# EAGLE library part DS1302 (library trosh_devices.eagle.v9)
Trickle-charge timekeeping chip
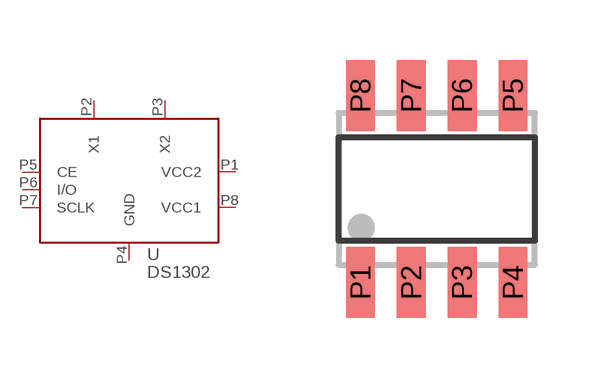
[diagram p1: symbol with the pads of SOIC-8; footprint SOIC-8]

Designator prefix U

## DS1302  [SOIC-8]
P1  VCC2  pwr
P2  X1  in
P3  X2  out
P4  GND  pwr
P5  CE  in
P6  I/O
P7  SCLK  in
P8  VCC1  pwr

## Footprint SOIC-8 (pad centres in mm)
smd 0.72 x 1.78: P1 -1.905,-2.34; P2 -0.635,-2.34; P3 0.635,-2.34; P4 1.905,-2.34; P5 1.905,2.34; P6 0.635,2.34; P7 -0.635,2.34; P8 -1.905,2.34